# Altium integrated library FT230XQ-T.IntLib: 1 symbol
Pins are listed as number, name and electrical type; pins without a type are passive.

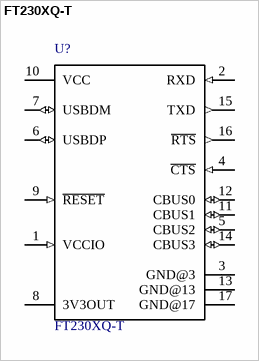
[diagram p0: symbol FT230XQ-T]

## FT230XQ-T
designator U?
USB Full Speed to Basic UART IC with USB Charger Detection, QFN-16; MF: FTDI,; MP: FT230XQ-T; Digi-Key_Purchase_URL: https://www.digikey.com/product-detail/en/ftdi-future-technology-devices-international-ltd/FT230XQ-T/768-1153-ND/3749474?utm_source=snapeda&utm_medium=aggregator&utm_campaign=symbol; Package: QFN-16 FTDI; SnapEDA_Link: https://www.snapeda.com/parts/FT230XQ-T/FTDI%2C%20Future%20Technology%20Devices%20International%20Ltd/view-part/?ref=snap; Digi-Key_Part_Number: 768-1153-ND; Value: *
footprint *QFN16
pins: 1 VCCIO (in), 2 RXD (in), 3 GND@3 (power), 4 ~{CTS} (in), 5 CBUS2 (io), 6 USBDP (io), 7 USBDM (io), 8 3V3OUT, 9 ~{RESET} (in), 10 VCC (power), 11 CBUS1 (io), 12 CBUS0 (io), 13 GND@13 (power), 14 CBUS3 (io), 15 TXD (out), 16 ~{RTS} (out), 17 GND@17 (power)